# EAGLE library part NCP692 (library sjg-power)
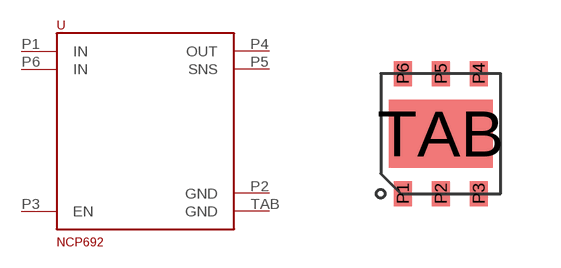
[diagram p3: symbol with the pads of DFN6; footprint DFN6]

Designator prefix -

## NCP692  [DFN6]
P1  IN
P2  GND
P3  EN
P4  OUT
P5  SNS
P6  IN
TAB  GND

## Footprint DFN6 (pad centres in mm)
DFN6 package
smd 0.45 x 0.63: P1 -0.95,-1.5; P2 0,-1.5; P3 0.95,-1.5; P4 0.95,1.5; P5 0,1.5; P6 -0.95,1.5
smd 2.6 x 1.7: TAB 0,0